# EAGLE library part DAC0808 (library chuong)
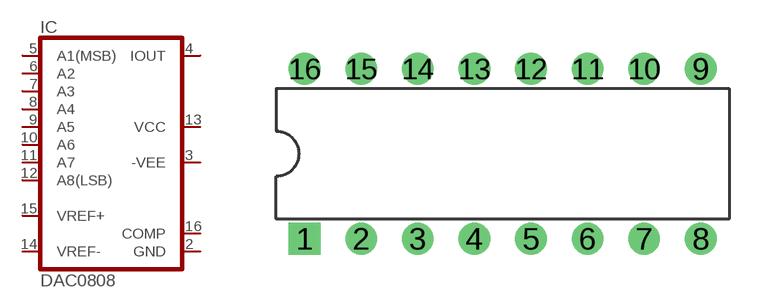
[diagram p36: symbol with the pads of DIL-16; footprint DIL-16]

Designator prefix IC

## DAC0808  [DIL-16]
2  GND  in
3  -VEE  in
4  IOUT  out
5  A1(MSB)  in
6  A2  in
7  A3  in
8  A4  in
9  A5  in
10  A6  in
11  A7  in
12  A8(LSB)  in
13  VCC  in
14  VREF-  in
15  VREF+  in
16  COMP  in

## Footprint DIL-16 (pad centres in mm)
drill 0.61 pad 1.422 square: 1 -8.89,-3.81
drill 0.61 pad 1.422 round: 2 -6.35,-3.81; 3 -3.81,-3.81; 4 -1.27,-3.81; 5 1.27,-3.81; 6 3.81,-3.81; 7 6.35,-3.81; 8 8.89,-3.81; 9 8.89,3.81; 10 6.35,3.81; 11 3.81,3.81; 12 1.27,3.81; 13 -1.27,3.81; 14 -3.81,3.81; 15 -6.35,3.81; 16 -8.89,3.81